# EAGLE library part LT1054 (library mylib2)
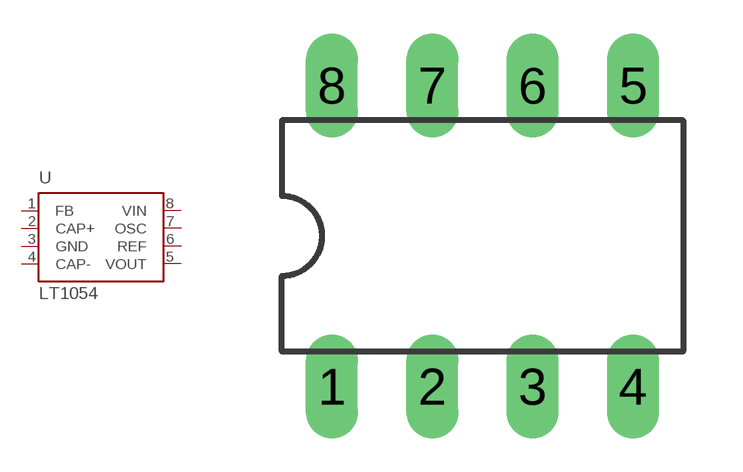
[diagram p12: symbol with the pads of DIL8; footprint DIL8]

Designator prefix -

## LT1054  [DIL8]
1  FB  in
2  CAP+  pas
3  GND  pwr
4  CAP-  pas
5  VOUT  out
6  REF  in
7  OSC  out
8  VIN  in

## Footprint DIL8 (pad centres in mm)
drill 0.813 long: 1 -3.81,-3.81; 2 -1.27,-3.81; 3 1.27,-3.81; 4 3.81,-3.81; 5 3.81,3.81; 6 1.27,3.81; 7 -1.27,3.81; 8 -3.81,3.81